# Altium schematic symbol library MTCH101.SchLib: 10 symbols
Pins are listed as number, name and electrical type; pins without a type are passive.

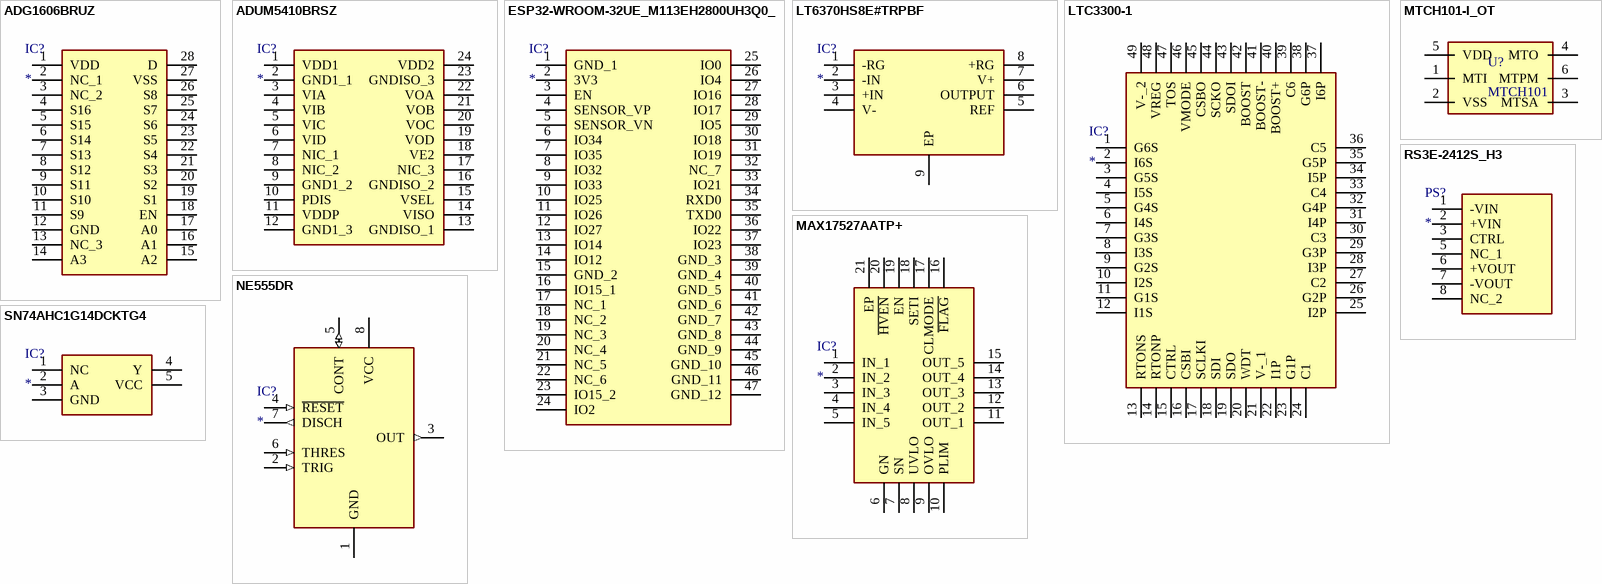
[diagram p0: symbols ADG1606BRUZ to SN74AHC1G14DCKTG4]

## ADG1606BRUZ
designator IC?
Integrated Circuit; Manufacturer_Name: Analog Devices; Manufacturer_Part_Number: ADG1606BRUZ; Datasheet Link: https://eu.mouser.com/datasheet/2/609/ADG1606_1607-1502923.pdf; Height: 1.2mm; Mouser Part Number: 584-ADG1606BRUZ; Mouser Price/Stock: https://www.mouser.co.uk/ProductDetail/Analog-Devices/ADG1606BRUZ?qs=BpaRKvA4VqEAmbrNnLSoQA%3D%3D; Arrow Part Number: ADG1606BRUZ; Arrow Price/Stock: https://www.arrow.com/en/products/adg1606bruz/analog-devices
footprint SOP65P640X120-28N
pins: 1 VDD, 2 NC_1, 3 NC_2, 4 S16, 5 S15, 6 S14, 7 S13, 8 S12, 9 S11, 10 S10, 11 S9, 12 GND, 13 NC_3, 14 A3, 15 A2, 16 A1, 17 A0, 18 EN, 19 S1, 20 S2, 21 S3, 22 S4, 23 S5, 24 S6, 25 S7, 26 S8, 27 VSS, 28 D

## ADUM5410BRSZ
designator IC?
Integrated Circuit; Manufacturer_Name: Analog Devices; Manufacturer_Part_Number: ADUM5410BRSZ; Datasheet Link: http://www.analog.com/media/en/technical-documentation/data-sheets/ADuM5410-5411-5412.pdf; Height: 2mm; Mouser Part Number: 584-ADUM5410BRSZ; Mouser Price/Stock: https://www.mouser.co.uk/ProductDetail/Analog-Devices/ADUM5410BRSZ?qs=xwQlLnDx56CdBaAm4pStkw%3D%3D; Arrow Part Number: ADUM5410BRSZ; Arrow Price/Stock: https://www.arrow.com/en/products/adum5410brsz/analog-devices
footprint SOP65P780X200-24N
pins: 1 VDD1, 2 GND1_1, 3 VIA, 4 VIB, 5 VIC, 6 VID, 7 NIC_1, 8 NIC_2, 9 GND1_2, 10 PDIS, 11 VDDP, 12 GND1_3, 13 GNDISO_1, 14 VISO, 15 VSEL, 16 GNDISO_2, 17 NIC_3, 18 VE2, 19 VOD, 20 VOC, 21 VOB, 22 VOA, 23 GNDISO_3, 24 VDD2

## ESP32-WROOM-32UE_M113EH2800UH3Q0_
designator IC?
Integrated Circuit; Manufacturer_Name: Espressif Systems; Manufacturer_Part_Number: ESP32-WROOM-32UE(M113EH2800UH3Q0); Datasheet Link: https://www.mouser.co.uk/datasheet/2/891/esp32_wroom_32e_esp32_wroom_32ue_datasheet_en-1855879.pdf; Height: 3.35mm; Mouser Part Number: N/A; Mouser Price/Stock: https://www.mouser.co.uk/ProductDetail/Espressif-Systems/ESP32-WROOM-32UEM113EH2800UH3Q0?qs=vHuUswq2%252BswmjMZOJoYkgw%3D%3D
footprint ESP32WROOM32UEM113EH2800UH3Q0
pins: 1 GND_1, 2 3V3, 3 EN, 4 SENSOR_VP, 5 SENSOR_VN, 6 IO34, 7 IO35, 8 IO32, 9 IO33, 10 IO25, 11 IO26, 12 IO27, 13 IO14, 14 IO12, 15 GND_2, 16 IO15_1, 17 NC_1, 18 NC_2, 19 NC_3, 20 NC_4, 21 NC_5, 22 NC_6, 23 IO15_2, 24 IO2, 25 IO0, 26 IO4, 27 IO16, 28 IO17, 29 IO5, 30 IO18, 31 IO19, 32 NC_7, 33 IO21, 34 RXD0, 35 TXD0, 36 IO22, 37 IO23, 38 GND_3, 39 GND_4, 40 GND_5, 41 GND_6, 42 GND_7, 43 GND_8, 44 GND_9, 45 GND_10, 46 GND_11, 47 GND_12

## LT6370HS8E#TRPBF
designator IC?
Integrated Circuit; Manufacturer_Name: Analog Devices; Manufacturer_Part_Number: LT6370HS8E#TRPBF; Datasheet Link: https://www.analog.com/media/en/technical-documentation/data-sheets/LT6370.pdf; Height: 1.752mm; Mouser Part Number: 584-LT6370HS8E#TRPBF; Mouser Price/Stock: https://www.mouser.co.uk/ProductDetail/Analog-Devices/LT6370HS8ETRPBF?qs=BJlw7L4Cy78RxPACMhkSIw%3D%3D
footprint SOIC127P599X175-9N
pins: 1 -RG, 2 -IN, 3 +IN, 4 V-, 5 REF, 6 OUTPUT, 7 V+, 8 +RG, 9 EP

## LTC3300-1
designator IC?
Integrated Circuit; Manufacturer_Name: Analog Devices; Manufacturer_Part_Number: LTC3300-1; Datasheet Link: http://cds.linear.com/docs/en/datasheet/33001fb.pdf; Height: 1.6mm
footprint QFP50P900X900X160-49N
pins: 1 G6S, 2 I6S, 3 G5S, 4 I5S, 5 G4S, 6 I4S, 7 G3S, 8 I3S, 9 G2S, 10 I2S, 11 G1S, 12 I1S, 13 RTONS, 14 RTONP, 15 CTRL, 16 CSBI, 17 SCLKI, 18 SDI, 19 SDO, 20 WDT, 21 V-_1 (power), 22 I1P, 23 G1P, 24 C1, 25 I2P, 26 G2P, 27 C2, 28 I3P, 29 G3P, 30 C3, 31 I4P, 32 G4P, 33 C4, 34 I5P, 35 G5P, 36 C5, 37 I6P, 38 G6P, 39 C6, 40 BOOST+, 41 BOOST-, 42 BOOST, 43 SDOI, 44 SCKO, 45 CSBO, 46 VMODE, 47 TOS, 48 VREG, 49 V-_2 (power)

## MAX17527AATP+
designator IC?
Integrated Circuit; Manufacturer_Name: Analog Devices; Manufacturer_Part_Number: MAX17527AATP+; Datasheet Link: https://g.componentsearchengine.com/Datasheets/0/17291911.pdf; Height: 0.8mm; Mouser Part Number: 700-MAX17527AATP+; Mouser Price/Stock: https://www.mouser.co.uk/ProductDetail/Analog-Devices-Maxim-Integrated/MAX17527AATP%2b?qs=amGC7iS6iy%2F5CvF1bQ9EqQ%3D%3D
footprint QFN65P500X500X80-21N
pins: 1 IN_1, 2 IN_2, 3 IN_3, 4 IN_4, 5 IN_5, 6 GN, 7 SN, 8 UVLO, 9 OVLO, 10 PLIM, 11 OUT_1, 12 OUT_2, 13 OUT_3, 14 OUT_4, 15 OUT_5, 16 ~{FLAG}, 17 CLMODE, 18 SETI, 19 EN, 20 ~{HVEN}, 21 EP

## MTCH101-I_OT
designator U?, comment MTCH101
Capasitive touch sensor; Manufacturer_Name: Microchip; Manufacturer_Part_Number: MTCH101-I/OT; Datasheet Link: https://componentsearchengine.com/Datasheets/2/MTCH101-I_OT.pdf; Height: 1.45mm; Mouser Part Number: 579-MTCH101-I/OT; Mouser Price/Stock: https://www.mouser.co.uk/ProductDetail/Microchip-Technology/MTCH101-I-OT?qs=VteoEApvSIB767sF5JiK8g%3D%3D; Arrow Part Number: MTCH101-I/OT; Arrow Price/Stock: https://www.arrow.com/en/products/mtch101-iot/microchip-technology?region=nac
footprint SOT95P270X145-6N
pins: 1 MTI, 2 VSS, 3 MTSA, 4 MTO, 5 VDD, 6 MTPM

## NE555DR
designator IC?
Integrated Circuit; Manufacturer_Name: Texas Instruments; Manufacturer_Part_Number: NE555DR; Datasheet Link: http://www.ti.com/lit/ds/symlink/ne555.pdf; Height: 1.75mm; Mouser Part Number: 595-NE555DR; Mouser Price/Stock: https://www.mouser.com/Search/Refine.aspx?Keyword=595-NE555DR; RS Part Number: 1218414; RS Price/Stock: http://uk.rs-online.com/web/p/products/1218414
footprint SOIC127P600X175-8N
pins: 1 GND (power), 2 TRIG (in), 3 OUT (out), 4 ~{RESET} (in), 5 CONT (io), 6 THRES (in), 7 DISCH (out), 8 VCC (power)

## RS3E-2412S_H3
designator PS?
Power Supply; Manufacturer_Name: RECOM Power; Manufacturer_Part_Number: RS3E-2412S/H3; Datasheet Link: https://recom-power.com/pdf/Econoline/RS3E.pdf; Height: 11.35mm; Mouser Part Number: 919-RS3E-2412S/H3; Mouser Price/Stock: https://www.mouser.co.uk/ProductDetail/RECOM-Power/RS3E-2412S-H3?qs=TuK3vfAjtkWjzZN4GaSyIA%3D%3D
footprint RS3E2412SH3
pins: 1 -VIN, 2 +VIN, 3 CTRL, 5 NC_1, 6 +VOUT, 7 -VOUT, 8 NC_2

## SN74AHC1G14DCKTG4
designator IC?
Integrated Circuit; Manufacturer_Name: Texas Instruments; Manufacturer_Part_Number: SN74AHC1G14DCKTG4; Datasheet Link: https://www.arrow.com/en/products/sn74ahc1g14dcktg4/texas-instruments; Height: 1.1mm; Mouser Part Number: 595-74AHC1G14DCKTG4; Mouser Price/Stock: https://www.mouser.co.uk/ProductDetail/Texas-Instruments/SN74AHC1G14DCKTG4?qs=E8lYj0tdJGEytRoR%252BZfsiA%3D%3D; Arrow Part Number: SN74AHC1G14DCKTG4; Arrow Price/Stock: https://www.arrow.com/en/products/sn74ahc1g14dcktg4/texas-instruments?region=nac
footprint SOT65P210X110-5N
pins: 1 NC, 2 A, 3 GND, 4 Y, 5 VCC